# Altium footprint library Relais.PcbLib: 1 footprints
Each footprint in its own frame and in the unit in brackets; x right, y up, seen from the top. Pads: shape width x height; smd on the part's side, far side on the other; paste and mask are expansions set on the pad; w line width, h text height; cw(c..) or ccw(c..) is an arc to the next point about the centre after c.
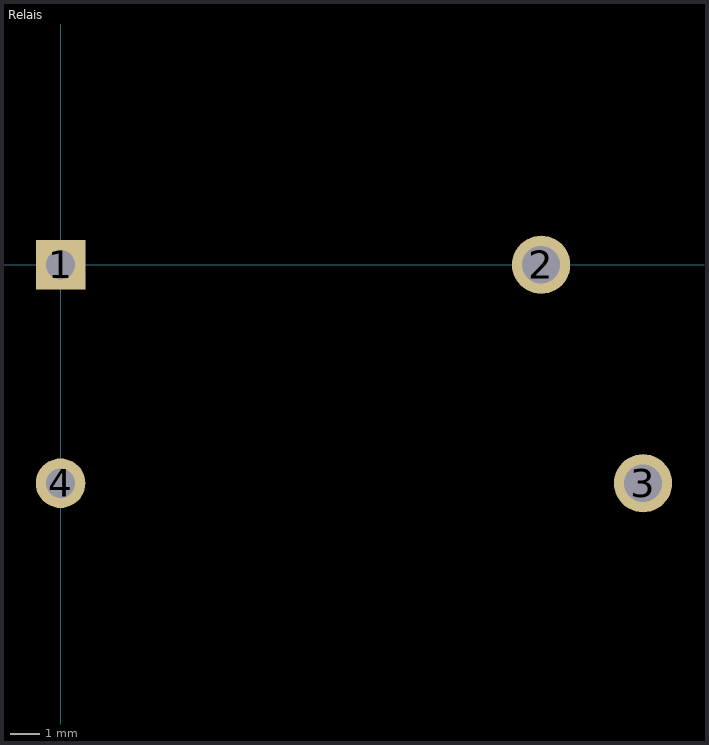
[diagram p0: the footprint, top view; thin cyan lines are the x and y axes]

## Relais [mm]
pads (4):
  rect 1.7x1.7 hole 1: 1(0,0)
  round 2 hole 1.3: 2(16.5,0) 3(20,-7.5)
  round 1.7 hole 1: 4(0,-7.5)